# Altium schematic symbol library USB-AP-S-RA-SMT.SCHLIB: 1 symbol
Pins are listed as number, name and electrical type; pins without a type are passive.

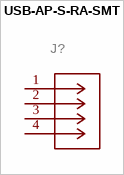
[diagram p0: symbol USB-AP-S-RA-SMT]

## USB-AP-S-RA-SMT
designator J?
MFR_NAME: ADAM TECHNOLOGIES INC; GateName_1: A; SymbolName_1: CONN_004P_000C_1; DeviceSetName: USB-AP-S-RA-SMT; LibraryName: USB-AP-S-RA-SMT; Package: CONN_USB-AP-S-RA-SMT_ADM; COPYRIGHT: Copyright (C) 2023 Ultra Librarian. All rights reserved.; MANUFACTURER_PART_NUMBER: USB-AP-S-RA-SMT
footprint CONN_USB-AP-S-RA-SMT_ADM
pins: 1, 2, 3, 4